# EAGLE library part 12P (library con-degson)
DEGSON DG55 CONNECTOR
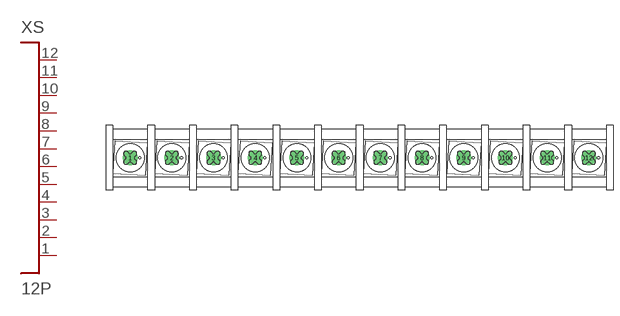
[diagram p6: symbol with the pads of DG55CB-12P-1; footprint DG55CB-12P-1]

Designator prefix XS

## 12P  [DG55CB-12P-1]
1  P$1
2  P$2
3  P$3
4  P$4
5  P$5
6  P$6
7  P$7
8  P$8
9  P$9
10  P$10
11  P$11
12  P$12

## Footprint DG55CB-12P-1 (pad centres in mm)
DG55
drill 1.8 pad 3.6: 1 -55,0; 2 -45,0; 3 -35,0; 4 -25,0; 5 -15,0; 6 -5,0; 7 5,0; 8 15,0; 9 25,0; 10 35,0; 11 45,0; 12 55,0